# Altium footprint library SODFL1608X70N.PcbLib: 1 footprints
Each footprint in its own frame and in the unit in brackets; x right, y up, seen from the top. Pads: shape width x height; smd on the part's side, far side on the other; paste and mask are expansions set on the pad; w line width, h text height; cw(c..) or ccw(c..) is an arc to the next point about the centre after c.
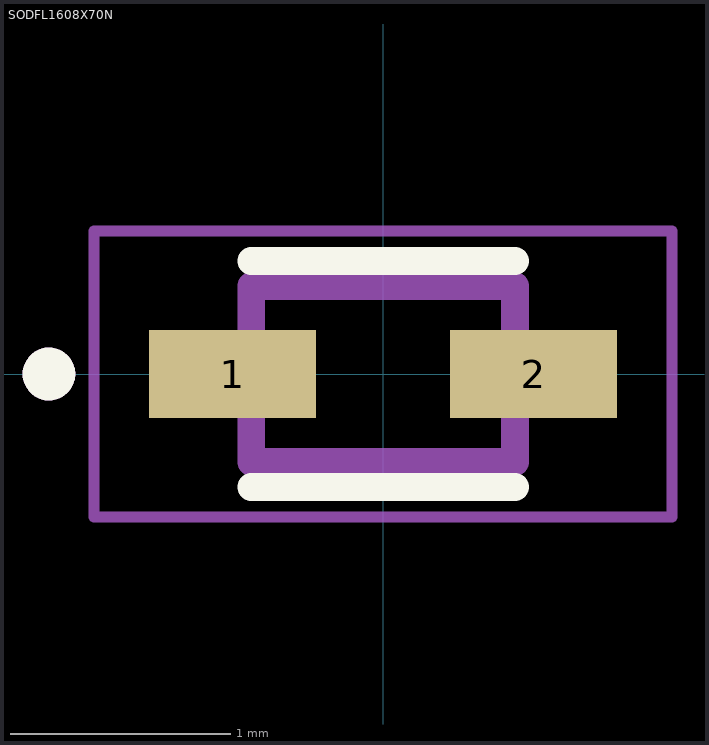
[diagram p0: the footprint, top view; thin cyan lines are the x and y axes]

## SODFL1608X70N [mm]
pads (2):
  rect 0.76x0.4 smd: 1(-0.685,0) 2(0.685,0)
Top Overlay:
  circle w0.12: c-1.52,0 r0.06
  lines w0.127: -0.6,-0.513 0.6,-0.513 ; -0.6,0.513 0.6,0.513
Mechanical 13:
  circle w0.12: c-1.52,0 r0.06
  lines w0.127: -0.6,-0.4 0.6,-0.4 0.6,0.4 -0.6,0.4 -0.6,-0.4
Mechanical 15:
  lines w0.05: -1.315,-0.65 1.315,-0.65 1.315,0.65 -1.315,0.65 -1.315,-0.65
3D body "step_temp.STEP": height 0.7, standoff 0, extent -0.8,-0.4 0.8,0.4